# Altium schematic symbol library CH340T.SchLib: 1 symbol
Pins are listed as number, name and electrical type; pins without a type are passive.

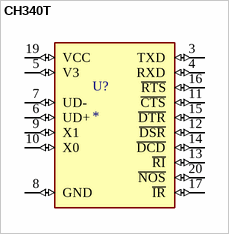
[diagram p0: symbol CH340T]

## CH340T
designator U?
Interface Development Tools USB - Serial Convert with CH340T; MF: wch; SnapEDA_Link: https://www.snapeda.com/parts/CH340T/WCH/view-part/?ref=snap; Package: None; Value: *; MP: CH340T; Check_prices: https://www.snapeda.com/parts/CH340T/WCH/view-part/?ref=eda
footprint CH340T
pins: 3 TXD (io), 4 RXD (io), 5 V3 (io), 6 UD+ (io), 7 UD- (io), 8 GND (io), 9 X1 (io), 10 X0 (io), 11 ~{CTS} (io), 12 ~{DSR} (io), 13 ~{RI} (io), 14 ~{DCD} (io), 15 ~{DTR} (io), 16 ~{RTS} (io), 17 ~{IR} (io), 19 VCC (io), 20 ~{NOS} (io)